# Altium footprint library 4D15-P4.PcbLib: 1 footprints
Each footprint in its own frame and in the unit in brackets; x right, y up, seen from the top. Pads: shape width x height; smd on the part's side, far side on the other; paste and mask are expansions set on the pad; w line width, h text height; cw(c..) or ccw(c..) is an arc to the next point about the centre after c.
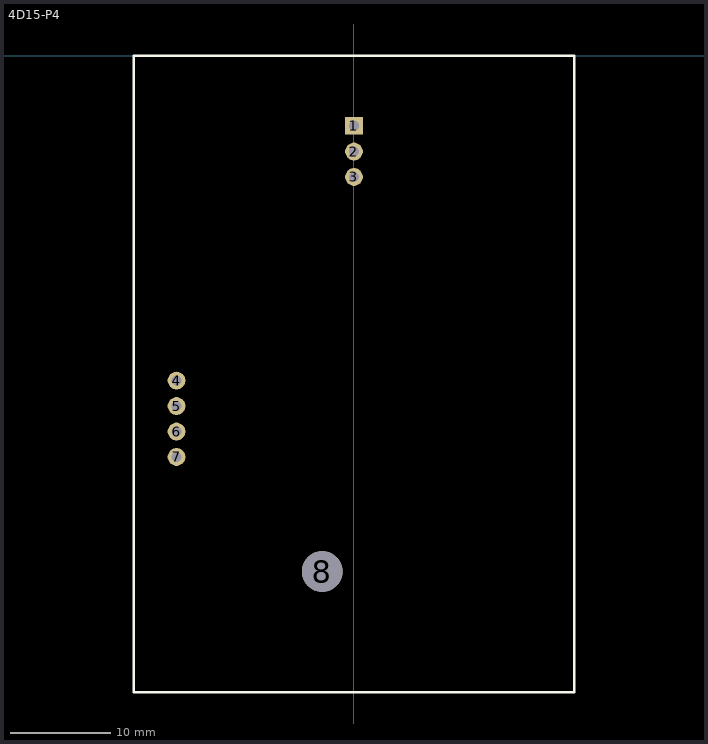
[diagram p0: the footprint, top view; thin cyan lines are the x and y axes]

## 4D15-P4 [mil]
pads (8):
  rect 70x70 hole 40: 1(0,-275)
  round 70 hole 40: 2(0,-376) 3(0,-476) 4(-697,-1276) 5(-697,-1376) 6(-697,-1476) 7(-697,-1576)
  round 160 hole 160: 8(-125,-2026)
Top Overlay:
  lines w10: -865,-2500 865,-2500 865,0 -865,0 -865,-2500
3D body: height 511, standoff 0, extent -865,-2500 865,0